# EAGLE library part 93LC46BT-I (library pandaLight)
1K Microwire Compatible Serial EEPROM
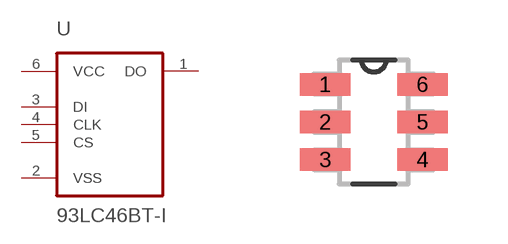
[diagram p1: symbol with the pads of SOT23-6; footprint SOT23-6]

Designator prefix -

## 93LC46BT-I/OT  [SOT23-6]
1  DO  out
2  VSS  pwr
3  DI  in
4  CLK  in
5  CS  in
6  VCC  pwr

## Footprint SOT23-6 (pad centres in mm)
smd 1.27 x 0.559: 1 -1.219,0.94; 2 -1.219,0; 3 -1.219,-0.94; 4 1.219,-0.94; 5 1.219,0; 6 1.219,0.94